# Altium schematic symbol library BH1000G.SchLib: 1 symbol
Pins are listed as number, name and electrical type; pins without a type are passive.

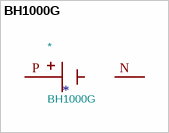
[diagram p0: symbol BH1000G]

## BH1000G
designator *  value BH1000G
\n                        \n                            Battery Holder (Open) Coin, 24.5mm 1 Cell PC Pin\n                        \n; MANUFACTURER: MPD; MF: MPD (Memory Protection Devices); Footprint: BH1000G:BAT_BH1000G; MAXIMUM_PACKAGE_HEIGHT: 12.6mm; Package: None; Price: None; Check_prices: https://www.snapeda.com/parts/BH1000G/MPD/view-part/?ref=eda; STANDARD: Manufacturer Recommendations; PARTREV: E; SnapEDA_Link: https://www.snapeda.com/parts/BH1000G/MPD/view-part/?ref=snap; MP: BH1000G; Description_: \n                        \n                            Battery Holder (Open) Coin, 24.5mm 1 Cell PC Pin\n                        \n; Availability: In Stock
footprint BAT_BH1000G
pins: N, P